# EAGLE library part GATE_DRIVER_H_NI (library Chips)
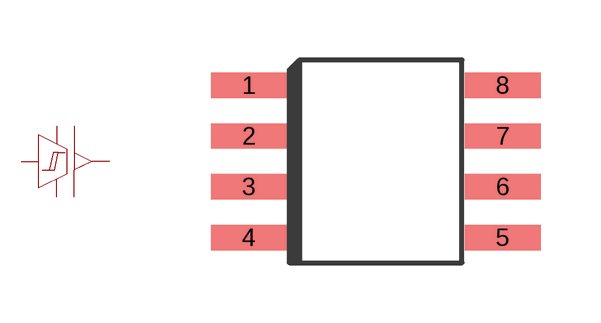
[diagram p19: symbol with the pads of 8SOP_4.4MM; footprint 8SOP_4.4MM]

Designator prefix -; gates P1=POWER P2=POWER_ISO A=SCHMITT_NI_ISO

## GATE_DRIVER_H_NISO-8  [8SOP_4.4MM]
1  P1:+  pwr
2  A:A  in
4  P1:-  pwr
6  P2:-  pwr
7  A:Q  out
8  P2:+  pwr

## Footprint 8SOP_4.4MM (pad centres in mm)
smd 1.905 x 0.635: 1 -3.175,1.905; 2 -3.175,0.635; 3 -3.175,-0.635; 4 -3.175,-1.905; 5 3.175,-1.905; 6 3.175,-0.635; 7 3.175,0.635; 8 3.175,1.905